# EAGLE library part SN74LV4T125PWR (library shepherd)
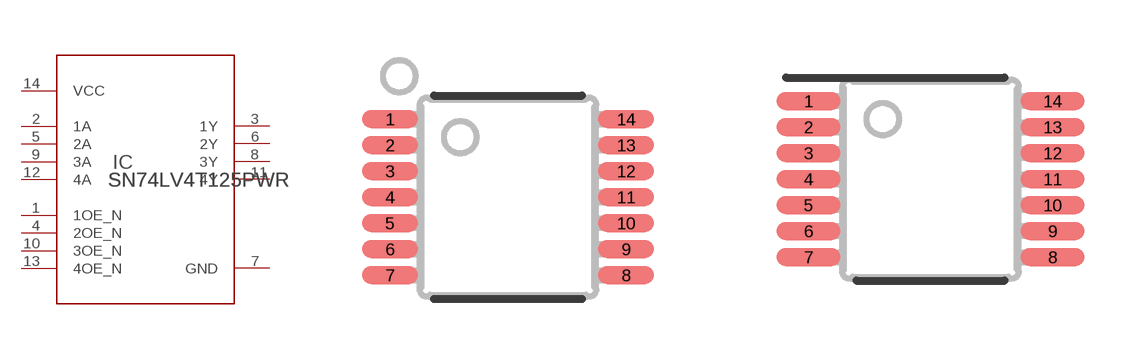
[diagram p25: symbol with the pads of PW0014A_N; footprints PW0014A_N, PW0014A_M]

Designator prefix IC

## SN74LV4T125PWR  [PW0014A_N]
1  1OE_N  in
2  1A  in
3  1Y  hiz
4  2OE_N  in
5  2A  in
6  2Y  hiz
7  GND  pwr
8  3Y  hiz
9  3A  in
10  3OE_N  in
11  4Y  hiz
12  4A  in
13  4OE_N  in
14  VCC  pwr

## SN74LV4T125PWRPW0014A_M  [PW0014A_M]
Pads as for PW0014A_N

## SN74LV4T125PWRPW0014A_L  [PW0014A_L]
Pads as for PW0014A_N

## Footprint PW0014A_N (pad centres in mm)
smd 1.4 x 0.45: 1 -2.95,1.95; 2 -2.95,1.3; 3 -2.95,0.65; 4 -2.95,0; 5 -2.95,-0.65; 6 -2.95,-1.3; 7 -2.95,-1.95; 8 2.95,-1.95; 9 2.95,-1.3; 10 2.95,-0.65; 11 2.95,0; 12 2.95,0.65; 13 2.95,1.3; 14 2.95,1.95

## Footprint PW0014A_M (pad centres in mm)
smd 1.6 x 0.45: 1 -3.05,1.95; 2 -3.05,1.3; 3 -3.05,0.65; 4 -3.05,0; 5 -3.05,-0.65; 6 -3.05,-1.3; 7 -3.05,-1.95; 8 3.05,-1.95; 9 3.05,-1.3; 10 3.05,-0.65; 11 3.05,0; 12 3.05,0.65; 13 3.05,1.3; 14 3.05,1.95

## Footprint PW0014A_L (pad centres in mm)
smd 1.2 x 0.4: 1 -2.85,1.95; 2 -2.85,1.3; 3 -2.85,0.65; 4 -2.85,0; 5 -2.85,-0.65; 6 -2.85,-1.3; 7 -2.85,-1.95; 8 2.85,-1.95; 9 2.85,-1.3; 10 2.85,-0.65; 11 2.85,0; 12 2.85,0.65; 13 2.85,1.3; 14 2.85,1.95